# Altium schematic symbol library SCH - POWER - SWITCHMODE - TI TPS51219_RTE_16.SchLib: 1 symbol
Pins are listed as number, name and electrical type; pins without a type are passive.

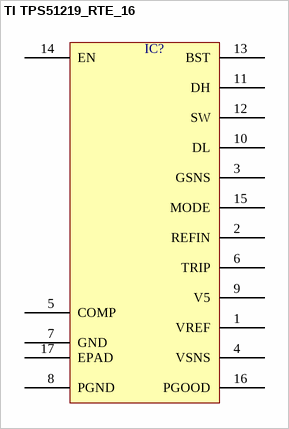
[diagram p0: symbol TI TPS51219_RTE_16]

## TI TPS51219_RTE_16
designator IC?  (value not drawn)
pins: 1 VREF, 2 REFIN, 3 GSNS, 4 VSNS, 5 COMP, 6 TRIP, 7 GND, 8 PGND, 9 V5, 10 DL, 11 DH, 12 SW, 13 BST, 14 EN, 15 MODE, 16 PGOOD, 17 EPAD